# EAGLE library part G2REA (library relay)
RELAY 1 x norm. open, high current, Omron
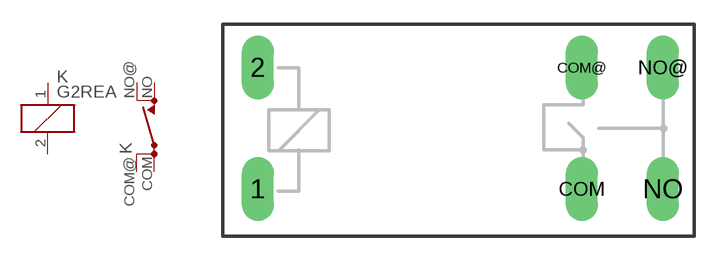
[diagram p22: symbol with the pads of G2REA; footprint G2REA]

Designator prefix K; gates C=K -A=SD

## G2REA  [G2REA]
1  C:1  pas
2  C:2  pas
COM  -A:COM  pas
COM@  -A:COM  pas
NO  -A:NO  pas
NO@  -A:NO  pas

## Footprint G2REA (pad centres in mm)
RELAY 1 x norm. open, high current, Omron
drill 1.321 long: 1 -2.54,-3.683; 2 -2.54,3.81; COM 17.45,-3.683; COM@ 17.45,3.81; NO 22.454,-3.683; NO@ 22.454,3.81